# Altium schematic symbol library Schliba2.SchLib: 2 symbols
Pins are listed as number, name and electrical type; pins without a type are passive.

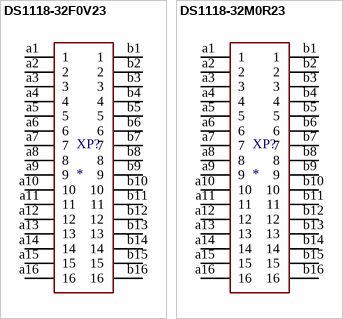
[diagram p0: symbols DS1118-32F0V23 to DS1118-32M0R23]

## DS1118-32F0V23
designator XP?
footprint DS1118-32F0V23
pins: a1 1, a2 2, a3 3, a4 4, a5 5, a6 6, a7 7, a8 8, a9 9, a10 10, a11 11, a12 12, a13 13, a14 14, a15 15, a16 16, b1 1, b2 2, b3 3, b4 4, b5 5, b6 6, b7 7, b8 8, b9 9, b10 10, b11 11, b12 12, b13 13, b14 14, b15 15, b16 16

## DS1118-32M0R23
designator XP?
footprint DS1118-32M0R23
pins: a1 1, a2 2, a3 3, a4 4, a5 5, a6 6, a7 7, a8 8, a9 9, a10 10, a11 11, a12 12, a13 13, a14 14, a15 15, a16 16, b1 1, b2 2, b3 3, b4 4, b5 5, b6 6, b7 7, b8 8, b9 9, b10 10, b11 11, b12 12, b13 13, b14 14, b15 15, b16 16